# Altium schematic symbol library Interface.SchLib: 116 symbols (part 2 of 2)
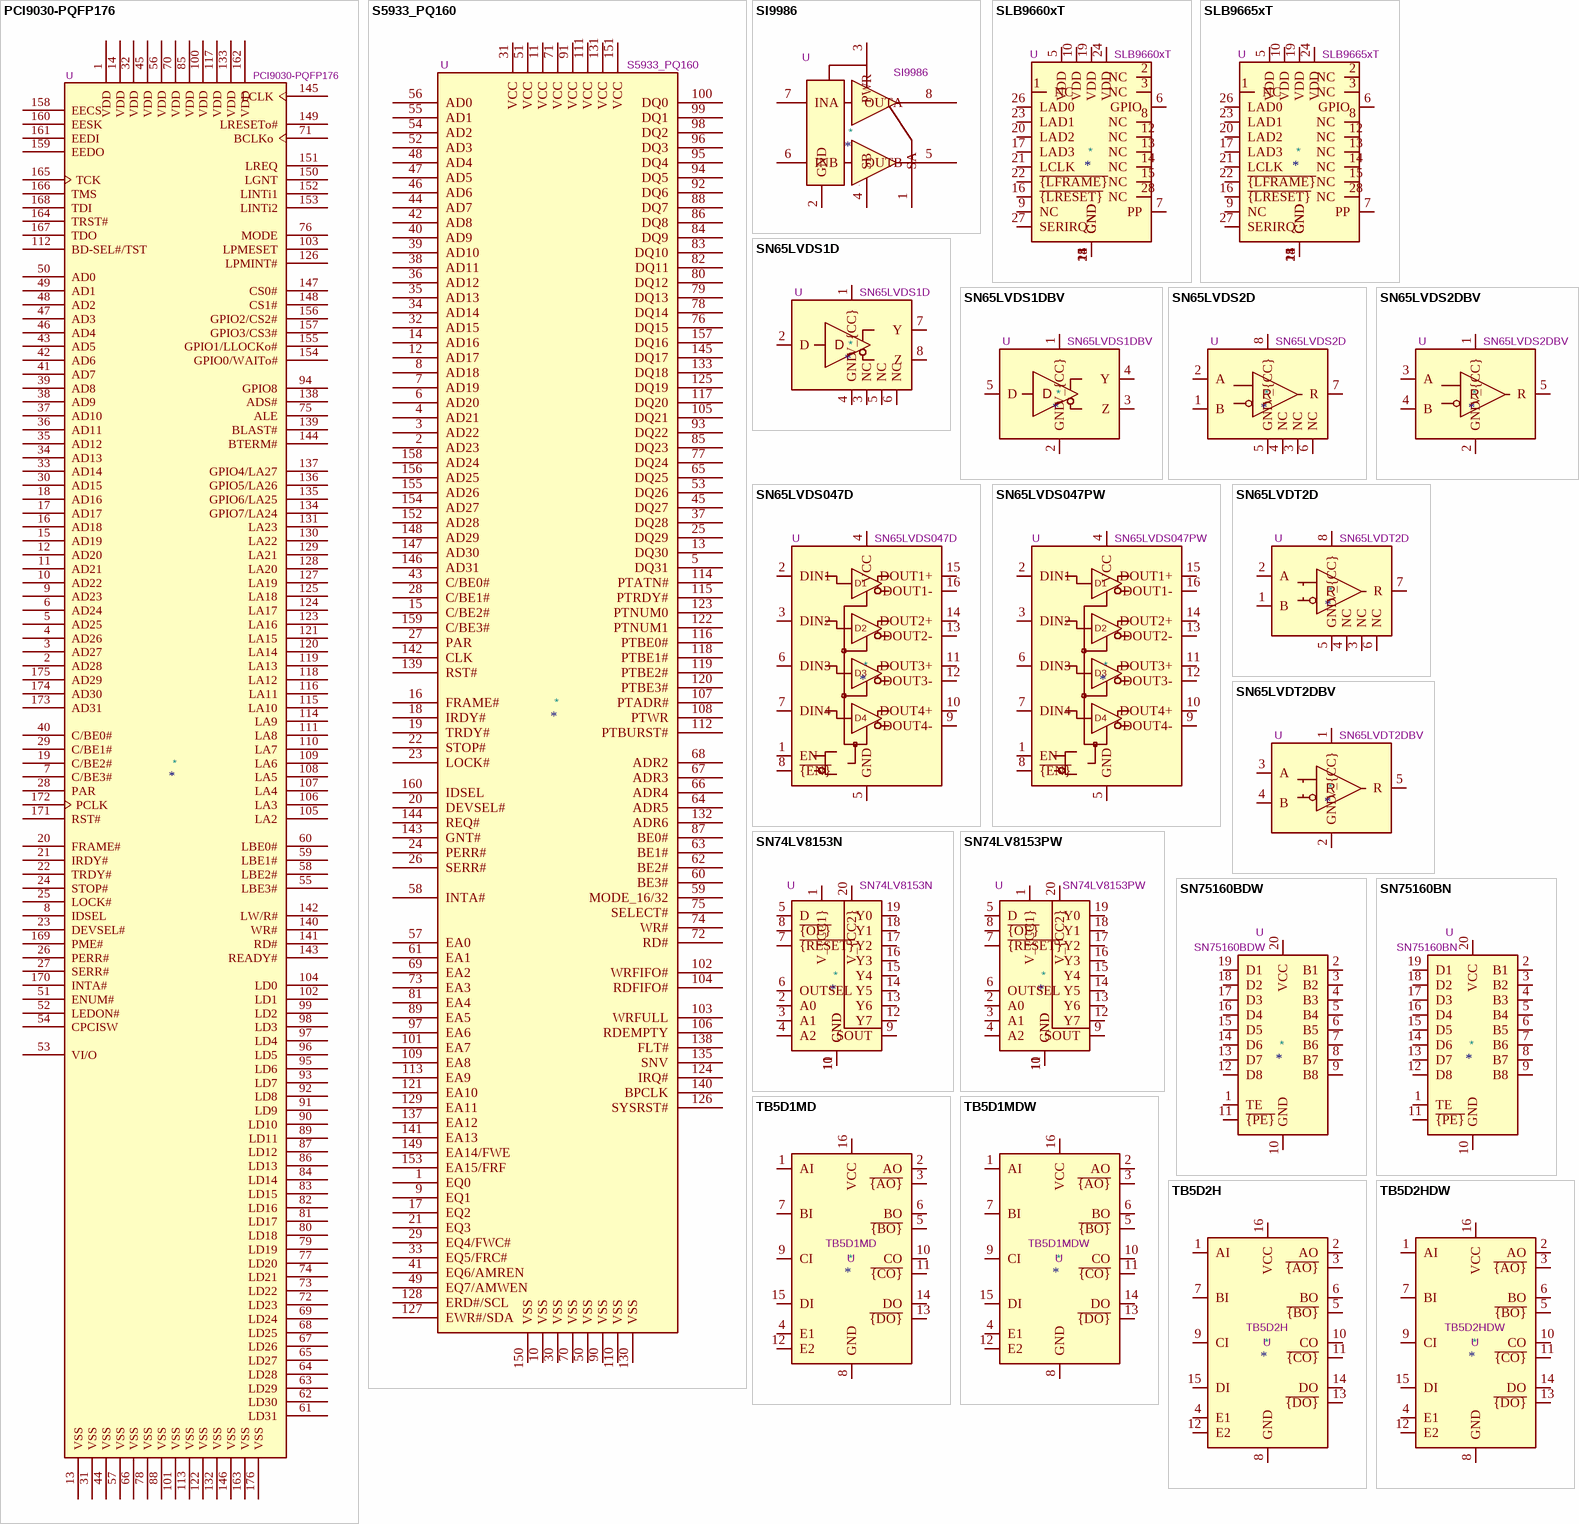
[diagram p6: symbols PCI9030-PQFP176 to TB5D2HDW]

## S5933_PQ160
designator *  value S5933_PQ160  Reference: U
PCI 2.1 Compliant Master/Slave Device, PQFP-160; ki_fp_filters: PQFP*28x28mm*P0.65mm*; Footprint: Package_QFP:PQFP-160_28x28mm_P0.65mm; Datasheet: http://datasheet.datasheetarchive.com/originals/distributors/Datasheets-35/DSA-684194.pdf; Description_: PCI 2.1 Compliant Master/Slave Device, PQFP-160; ki_keywords: PCI 2.1 Compliant Master/Slave Device
pins: 1 EQ0, 2 AD23, 3 AD22, 4 AD21, 5 DQ31, 6 AD20, 7 AD19, 8 AD18, 9 EQ1, 10 VSS, 11 VCC, 12 AD17, 13 DQ30, 14 AD16, 15 C/BE2#, 16 FRAME#, 17 EQ2, 18 IRDY#, 19 TRDY#, 20 DEVSEL#, 21 EQ3, 22 STOP#, 23 LOCK#, 24 PERR#, 25 DQ29, 26 SERR#, 27 PAR, 28 C/BE1#, 29 EQ4/FWC#, 30 VSS, 31 VCC, 32 AD15, 33 EQ5/FRC#, 34 AD14, 35 AD13, 36 AD12, 37 DQ28, 38 AD11, 39 AD10, 40 AD9, 41 EQ6/AMREN, 42 AD8, 43 C/BE0#, 44 AD7, 45 DQ27, 46 AD6, 47 AD5, 48 AD4, 49 EQ7/AMWEN, 50 VSS, 51 VCC, 52 AD3, 53 DQ26, 54 AD2, 55 AD1, 56 AD0, 57 EA0, 58 INTA#, 59 MODE_16/32, 60 BE3#, 61 EA1, 62 BE2#, 63 BE1#, 64 ADR5, 65 DQ25, 66 ADR4, 67 ADR3, 68 ADR2, 69 EA2, 70 VSS, 71 VCC, 72 RD#, 73 EA3, 74 WR#, 75 SELECT#, 76 DQ15, 77 DQ24, 78 DQ14, 79 DQ13, 80 DQ12, 81 EA4, 82 DQ11, 83 DQ10, 84 DQ9, 85 DQ23, 86 DQ8, 87 BE0#, 88 DQ7, 89 EA5, 90 VSS, 91 VCC, 92 DQ6, 93 DQ22, 94 DQ5, 95 DQ4, 96 DQ3, 97 EA6, 98 DQ2, 99 DQ1, 100 DQ0, 101 EA7, 102 WRFIFO#, 103 WRFULL, 104 RDFIFO#, 105 DQ21, 106 RDEMPTY, 107 PTADR#, 108 PTWR, 109 EA8, 110 VSS, 111 VCC, 112 PTBURST#, 113 EA9, 114 PTATN#, 115 PTRDY#, 116 PTBE0#, 117 DQ20, 118 PTBE1#, 119 PTBE2#, 120 PTBE3#, 121 EA10, 122 PTNUM1, 123 PTNUM0, 124 IRQ#, 125 DQ19, 126 SYSRST#, 127 EWR#/SDA, 128 ERD#/SCL, 129 EA11, 130 VSS, 131 VCC, 132 ADR6, 133 DQ18, 135 SNV, 137 EA12, 138 FLT#, 139 RST#, 140 BPCLK, 141 EA13, 142 CLK, 143 GNT#, 144 REQ#, 145 DQ17, 146 AD31, 147 AD30, 148 AD29, 149 EA14/FWE, 150 VSS, 151 VCC, 152 AD28, 153 EA15/FRF, 154 AD27, 155 AD26, 156 AD25, 157 DQ16, 158 AD24, 159 C/BE3#, 160 IDSEL

## SI9986
designator *  value SI9986  Reference: U
Integrated, buffered H-bridge with TTL compatible inputs, 1A, 12V, SOIC-8; ki_fp_filters: SOIC*3.9x4.9mm*P1.27mm*; Footprint: Package_SO:SOIC-8_3.9x4.9mm_P1.27mm; Datasheet: http://www.vishay.com/docs/70007/si9986.pdf; Description_: Integrated, buffered H-bridge with TTL compatible inputs, 1A, 12V, SOIC-8; ki_keywords: integrated, buffered H-bridge
pins: 1 SA, 2 GND, 3 PWR, 4 SB, 5 OUTB, 6 INB, 7 INA, 8 OUTA

## SLB9660xT
designator *  value SLB9660xT  Reference: U
Trusted Platform Module 1.2 with Low Pin Count interface, TSSOP-28; ki_keywords: TPM LPC; ki_fp_filters: TSSOP*4.4x9.7mm*P0.65mm*; Footprint: Package_SO:TSSOP-28_4.4x9.7mm_P0.65mm; Datasheet: https://www.infineon.com/dgdl/Infineon-data-sheet-SLB9660_1.2_Rev1.2-DS-v01_02-EN.pdf?fileId=5546d462689a790c016929d1cb874fe5; Description_: Trusted Platform Module 1.2 with Low Pin Count interface, TSSOP-28
pins: 1 NC, 2 NC, 3 NC, 4 GND, 5 VDD, 6 GPIO, 7 PP, 8 NC, 9 NC, 10 VDD, 11 GND, 12 NC, 13 NC, 14 NC, 15 NC, 16 ~{{LRESET}}, 17 LAD3, 18 GND, 19 VDD, 20 LAD2, 21 LCLK, 22 ~{{LFRAME}}, 23 LAD1, 24 VDD, 25 GND, 26 LAD0, 27 SERIRQ, 28 NC

## SLB9665xT
designator *  value SLB9665xT  Reference: U
Trusted Platform Module 2.0 with Low Pin Count interface, TSSOP-28; ki_keywords: TPM LPC; ki_fp_filters: TSSOP*4.4x9.7mm*P0.65mm*; Footprint: Package_SO:TSSOP-28_4.4x9.7mm_P0.65mm; Datasheet: https://www.infineon.com/dgdl/Infineon-data-sheet-SLB9665_2.0_Rev1.2-DS-v01_02-EN.pdf?fileId=5546d462689a790c016929d1d3054feb; Description_: Trusted Platform Module 2.0 with Low Pin Count interface, TSSOP-28
pins: 1 NC, 2 NC, 3 NC, 4 GND, 5 VDD, 6 GPIO, 7 PP, 8 NC, 9 NC, 10 VDD, 11 GND, 12 NC, 13 NC, 14 NC, 15 NC, 16 ~{{LRESET}}, 17 LAD3, 18 GND, 19 VDD, 20 LAD2, 21 LCLK, 22 ~{{LFRAME}}, 23 LAD1, 24 VDD, 25 GND, 26 LAD0, 27 SERIRQ, 28 NC

## SN65LVDS1D
designator *  value SN65LVDS1D  Reference: U
High-Speed Differential Line Driver, 630Mbps, SOIC-8; ki_keywords: LVDS Driver TI; ki_fp_filters: *SOIC*3.9x4.9mm*P1.27mm*; Footprint: Package_SO:SOIC-8_3.9x4.9mm_P1.27mm; Datasheet: http://www.ti.com/lit/ds/symlink/sn65lvds1.pdf; Description_: High-Speed Differential Line Driver, 630Mbps, SOIC-8
pins: 1 V_{CC}, 2 D, 3 NC, 4 GND, 5 NC, 6 NC, 7 Y, 8 Z

## SN65LVDS1DBV
designator *  value SN65LVDS1DBV  Reference: U
High-Speed Differential Line Driver, 630Mbps, SOT-23-5; ki_keywords: LVDS Driver TI; ki_fp_filters: SOT?23*; Footprint: Package_TO_SOT_SMD:SOT-23-5; Datasheet: http://www.ti.com/lit/ds/symlink/sn65lvds1.pdf; Description_: High-Speed Differential Line Driver, 630Mbps, SOT-23-5
pins: 1 V_{CC}, 2 GND, 3 Z, 4 Y, 5 D

## SN65LVDS2D
designator *  value SN65LVDS2D  Reference: U
High-Speed Differential Line Receiver, 630Mbps, SOIC-8; ki_keywords: LVDS Receiver TI; ki_fp_filters: *SOIC*3.9x4.9mm*P1.27mm*; Footprint: Package_SO:SOIC-8_3.9x4.9mm_P1.27mm; Datasheet: https://www.ti.com/lit/ds/symlink/sn65lvds2.pdf; Description_: High-Speed Differential Line Receiver, 630Mbps, SOIC-8
pins: 1 B, 2 A, 3 NC, 4 NC, 5 GND, 6 NC, 7 R, 8 V_{CC}

## SN65LVDS2DBV
designator *  value SN65LVDS2DBV  Reference: U
High-Speed Differential Line Receiver, 630Mbps, SOT-23-5; ki_keywords: LVDS Receiver TI; ki_fp_filters: SOT?23*; Footprint: Package_TO_SOT_SMD:SOT-23-5; Datasheet: https://www.ti.com/lit/ds/symlink/sn65lvds2.pdf; Description_: High-Speed Differential Line Receiver, 630Mbps, SOT-23-5
pins: 1 V_{CC}, 2 GND, 3 A, 4 B, 5 R

## SN65LVDS047D
designator *  value SN65LVDS047D  Reference: U
Quad LVDS Differential Line Driver, 400Mbps, SOIC-16; ki_keywords: Quad LVDS Driver; ki_fp_filters: SOIC*3.9x9.9mm*P1.27mm*; Footprint: Package_SO:SOIC-16_3.9x9.9mm_P1.27mm; Datasheet: http://www.ti.com/lit/ds/symlink/sn65lvds047.pdf; Description_: Quad LVDS Differential Line Driver, 400Mbps, SOIC-16
pins: 1 EN, 2 DIN1, 3 DIN2, 4 VCC, 5 GND, 6 DIN3, 7 DIN4, 8 ~{{EN}}, 9 DOUT4-, 10 DOUT4+, 11 DOUT3+, 12 DOUT3-, 13 DOUT2-, 14 DOUT2+, 15 DOUT1+, 16 DOUT1-
text: D1; D2; D3; D4

## SN65LVDS047PW
designator *  value SN65LVDS047PW  Reference: U
Quad LVDS Differential Line Driver, 400Mbps, TSSOP-16; ki_keywords: Quad LVDS Driver; ki_fp_filters: TSSOP*4.4x5mm*P0.65mm*; Footprint: Package_SO:TSSOP-16_4.4x5mm_P0.65mm; Datasheet: http://www.ti.com/lit/ds/symlink/sn65lvds047.pdf; Description_: Quad LVDS Differential Line Driver, 400Mbps, TSSOP-16
pins: 1 EN, 2 DIN1, 3 DIN2, 4 VCC, 5 GND, 6 DIN3, 7 DIN4, 8 ~{{EN}}, 9 DOUT4-, 10 DOUT4+, 11 DOUT3+, 12 DOUT3-, 13 DOUT2-, 14 DOUT2+, 15 DOUT1+, 16 DOUT1-
text: D1; D2; D3; D4

## SN65LVDT2D
designator *  value SN65LVDT2D  Reference: U
High-Speed Differential Line Receiver, 110 Ω Terminated, 630Mbps, SOIC-8; ki_keywords: LVDS Receiver TI; ki_fp_filters: *SOIC*3.9x4.9mm*P1.27mm*; Footprint: Package_SO:SOIC-8_3.9x4.9mm_P1.27mm; Datasheet: https://www.ti.com/lit/ds/symlink/sn65lvdt2.pdf; Description_: High-Speed Differential Line Receiver, 110 Ω Terminated, 630Mbps, SOIC-8
pins: 1 B, 2 A, 3 NC, 4 NC, 5 GND, 6 NC, 7 R, 8 V_{CC}

## SN65LVDT2DBV
designator *  value SN65LVDT2DBV  Reference: U
High-Speed Differential Line Receiver, 110 Ω Terminated, 630Mbps, SOT-23-5; ki_keywords: LVDS Receiver TI; ki_fp_filters: SOT?23*; Footprint: Package_TO_SOT_SMD:SOT-23-5; Datasheet: https://www.ti.com/lit/ds/symlink/sn65lvdt2.pdf; Description_: High-Speed Differential Line Receiver, 110 Ω Terminated, 630Mbps, SOT-23-5
pins: 1 V_{CC}, 2 GND, 3 A, 4 B, 5 R

## SN74LV8153N
designator *  value SN74LV8153N  Reference: U
UART, Single wire input, Output 40mA, Open Collector or Push Pull, PDIP-20; ki_keywords: serial to parallel; ki_fp_filters: DIP*W7.62mm*; Footprint: Package_DIP:DIP-20_W7.62mm; Datasheet: https://www.ti.com/lit/ds/symlink/sn74lv8153.pdf; Description_: UART, Single wire input, Output 40mA, Open Collector or Push Pull, PDIP-20
pins: 1 V_{CC1}, 2 A0, 3 A1, 4 A2, 5 D, 6 OUTSEL, 7 ~{{RESET}}, 8 ~{{OE}}, 9 SOUT, 10 GND, 11 GND, 12 Y7, 13 Y6, 14 Y5, 15 Y4, 16 Y3, 17 Y2, 18 Y1, 19 Y0, 20 V_{CC2}

## SN74LV8153PW
designator *  value SN74LV8153PW  Reference: U
UART, Single wire input, Output 40mA, Open Collector or Push Pull, TSSOP-20; ki_keywords: serial to parallel; ki_fp_filters: TSSOP*4.4x6.5mm*P0.65mm*; Footprint: Package_SO:TSSOP-20_4.4x6.5mm_P0.65mm; Datasheet: https://www.ti.com/lit/ds/symlink/sn74lv8153.pdf; Description_: UART, Single wire input, Output 40mA, Open Collector or Push Pull, TSSOP-20
pins: 1 V_{CC1}, 2 A0, 3 A1, 4 A2, 5 D, 6 OUTSEL, 7 ~{{RESET}}, 8 ~{{OE}}, 9 SOUT, 10 GND, 11 GND, 12 Y7, 13 Y6, 14 Y5, 15 Y4, 16 Y3, 17 Y2, 18 Y1, 19 Y0, 20 V_{CC2}

## SN75160BDW
designator *  value SN75160BDW  Reference: U
Octal general-purpose interface bus transceiver, SOIC-20; ki_keywords: gpib bidirectional bus transceiver; ki_fp_filters: SOIC*7.5x12.8mm*P1.27mm*; Footprint: Package_SO:SOIC-20W_7.5x12.8mm_P1.27mm; Datasheet: http://www.ti.com/lit/ds/symlink/sn75160b.pdf; Description_: Octal general-purpose interface bus transceiver, SOIC-20
pins: 1 TE, 2 B1, 3 B2, 4 B3, 5 B4, 6 B5, 7 B6, 8 B7, 9 B8, 10 GND, 11 ~{{PE}}, 12 D8, 13 D7, 14 D6, 15 D5, 16 D4, 17 D3, 18 D2, 19 D1, 20 VCC

## SN75160BN
designator *  value SN75160BN  Reference: U
Octal general-purpose interface bus transceiver, DIP-20; ki_keywords: gpib bidirectional bus transceiver; ki_fp_filters: DIP*W7.62mm*; Footprint: Package_DIP:DIP-20_W7.62mm; Datasheet: http://www.ti.com/lit/ds/symlink/sn75160b.pdf; Description_: Octal general-purpose interface bus transceiver, DIP-20
pins: 1 TE, 2 B1, 3 B2, 4 B3, 5 B4, 6 B5, 7 B6, 8 B7, 9 B8, 10 GND, 11 ~{{PE}}, 12 D8, 13 D7, 14 D6, 15 D5, 16 D4, 17 D3, 18 D2, 19 D1, 20 VCC

## TB5D1MD
designator *  value TB5D1MD  Reference: U
Quad differential PECL driver; ki_fp_filters: SOIC*3.9x9.9mm*P1.27*; Footprint: Package_SO:SOIC-16_3.9x9.9mm_P1.27mm; Datasheet: http://www.ti.com/lit/ds/symlink/tb5d2h.pdf; Description_: Quad differential PECL driver; ki_keywords: differential PECL driver
pins: 1 AI, 2 AO, 3 ~{{AO}}, 4 E1, 5 ~{{BO}}, 6 BO, 7 BI, 8 GND, 9 CI, 10 CO, 11 ~{{CO}}, 12 E2, 13 ~{{DO}}, 14 DO, 15 DI, 16 VCC

## TB5D1MDW
designator *  value TB5D1MDW  Reference: U
Quad differential PECL driver; ki_fp_filters: SOIC*7.5x10.3mm*P1.27*; Footprint: Package_SO:SOIC-16W_7.5x10.3mm_P1.27mm; Datasheet: http://www.ti.com/lit/ds/symlink/tb5d2h.pdf; Description_: Quad differential PECL driver; ki_keywords: differential PECL driver
pins: 1 AI, 2 AO, 3 ~{{AO}}, 4 E1, 5 ~{{BO}}, 6 BO, 7 BI, 8 GND, 9 CI, 10 CO, 11 ~{{CO}}, 12 E2, 13 ~{{DO}}, 14 DO, 15 DI, 16 VCC

## TB5D2H
designator *  value TB5D2H  Reference: U
Quad differential PECL driver; ki_fp_filters: SOIC*3.9x9.9mm*P1.27*; Footprint: Package_SO:SOIC-16_3.9x9.9mm_P1.27mm; Datasheet: http://www.ti.com/lit/ds/symlink/tb5d2h.pdf; Description_: Quad differential PECL driver; ki_keywords: differential PECL driver
pins: 1 AI, 2 AO, 3 ~{{AO}}, 4 E1, 5 ~{{BO}}, 6 BO, 7 BI, 8 GND, 9 CI, 10 CO, 11 ~{{CO}}, 12 E2, 13 ~{{DO}}, 14 DO, 15 DI, 16 VCC

## TB5D2HDW
designator *  value TB5D2HDW  Reference: U
Quad differential PECL driver; ki_fp_filters: SOIC*7.5x10.3mm*P1.27*; Footprint: Package_SO:SOIC-16W_7.5x10.3mm_P1.27mm; Datasheet: http://www.ti.com/lit/ds/symlink/tb5d2h.pdf; Description_: Quad differential PECL driver; ki_keywords: differential PECL driver
pins: 1 AI, 2 AO, 3 ~{{AO}}, 4 E1, 5 ~{{BO}}, 6 BO, 7 BI, 8 GND, 9 CI, 10 CO, 11 ~{{CO}}, 12 E2, 13 ~{{DO}}, 14 DO, 15 DI, 16 VCC

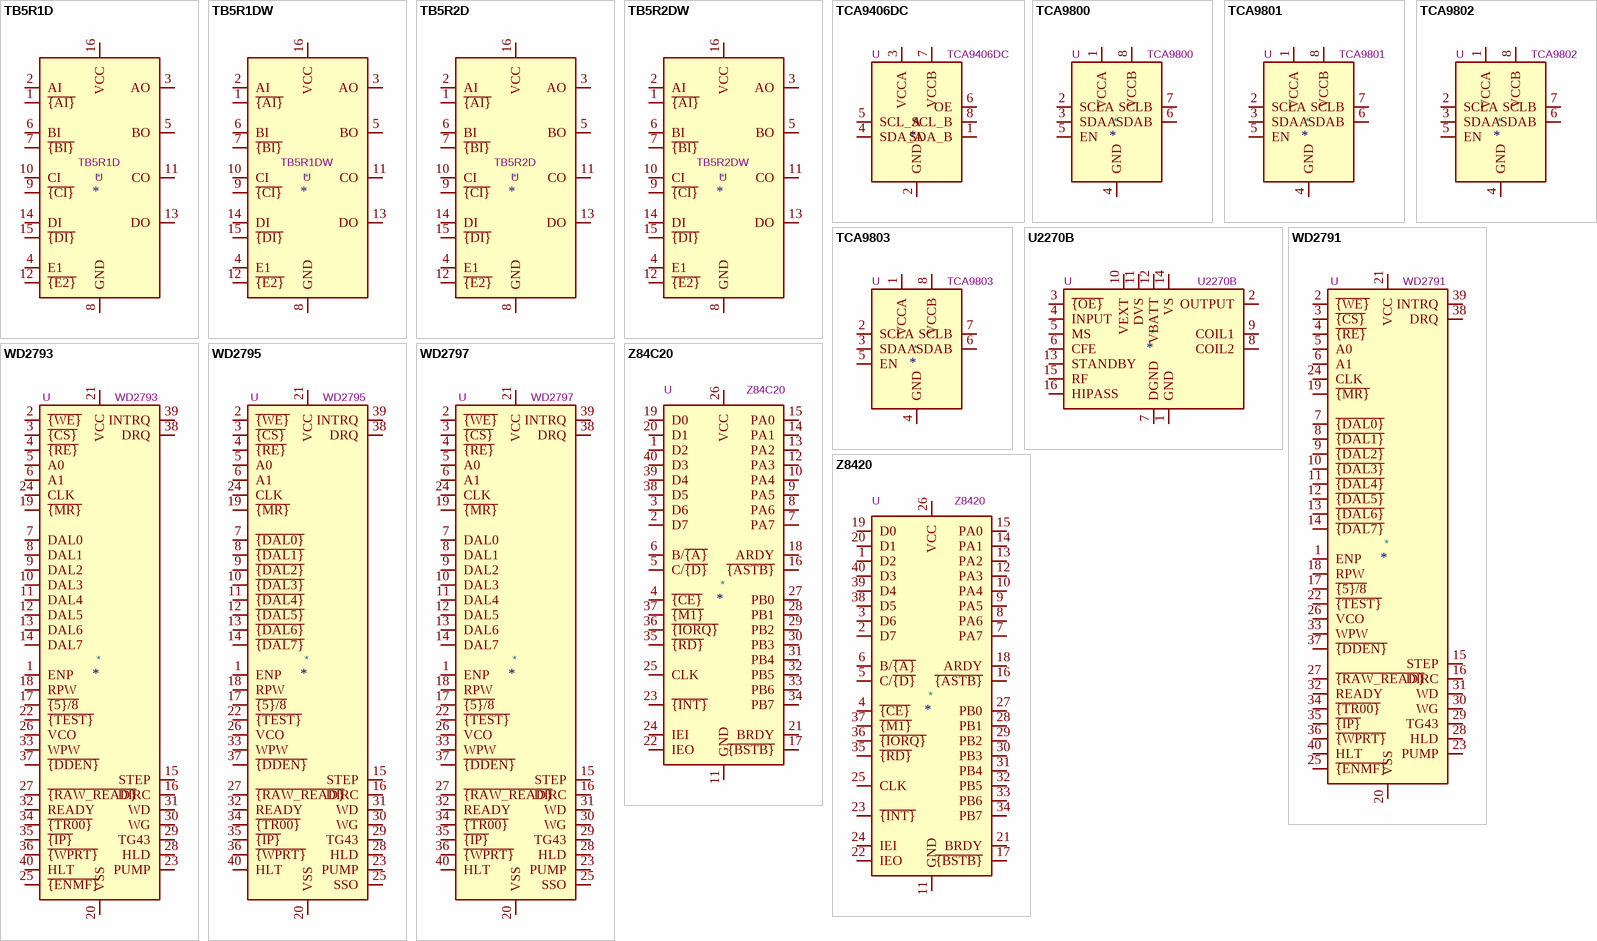
[diagram p5: symbols TB5R1D to Z8420]

## TB5R1D
designator *  value TB5R1D  Reference: U
Quad differential PECL reciver; ki_fp_filters: SOIC*3.9x9.9mm*P1.27*; Footprint: Package_SO:SOIC-16_3.9x9.9mm_P1.27mm; Datasheet: http://www.ti.com/lit/ds/symlink/tb5r1.pdf; Description_: Quad differential PECL reciver; ki_keywords: differential PECL reciver
pins: 1 ~{{AI}}, 2 AI, 3 AO, 4 E1, 5 BO, 6 BI, 7 ~{{BI}}, 8 GND, 9 ~{{CI}}, 10 CI, 11 CO, 12 ~{{E2}}, 13 DO, 14 DI, 15 ~{{DI}}, 16 VCC

## TB5R1DW
designator *  value TB5R1DW  Reference: U
Quad differential PECL reciver; ki_fp_filters: SOIC*7.5x10.3mm*P1.27*; Footprint: Package_SO:SOIC-16W_7.5x10.3mm_P1.27mm; Datasheet: http://www.ti.com/lit/ds/symlink/tb5r1.pdf; Description_: Quad differential PECL reciver; ki_keywords: differential PECL reciver
pins: 1 ~{{AI}}, 2 AI, 3 AO, 4 E1, 5 BO, 6 BI, 7 ~{{BI}}, 8 GND, 9 ~{{CI}}, 10 CI, 11 CO, 12 ~{{E2}}, 13 DO, 14 DI, 15 ~{{DI}}, 16 VCC

## TB5R2D
designator *  value TB5R2D  Reference: U
Quad differential PECL reciver; ki_fp_filters: SOIC*3.9x9.9mm*P1.27*; Footprint: Package_SO:SOIC-16_3.9x9.9mm_P1.27mm; Datasheet: http://www.ti.com/lit/ds/symlink/tb5r1.pdf; Description_: Quad differential PECL reciver; ki_keywords: differential PECL reciver
pins: 1 ~{{AI}}, 2 AI, 3 AO, 4 E1, 5 BO, 6 BI, 7 ~{{BI}}, 8 GND, 9 ~{{CI}}, 10 CI, 11 CO, 12 ~{{E2}}, 13 DO, 14 DI, 15 ~{{DI}}, 16 VCC

## TB5R2DW
designator *  value TB5R2DW  Reference: U
Quad differential PECL reciver; ki_fp_filters: SOIC*7.5x10.3mm*P1.27*; Footprint: Package_SO:SOIC-16W_7.5x10.3mm_P1.27mm; Datasheet: http://www.ti.com/lit/ds/symlink/tb5r1.pdf; Description_: Quad differential PECL reciver; ki_keywords: differential PECL reciver
pins: 1 ~{{AI}}, 2 AI, 3 AO, 4 E1, 5 BO, 6 BI, 7 ~{{BI}}, 8 GND, 9 ~{{CI}}, 10 CI, 11 CO, 12 ~{{E2}}, 13 DO, 14 DI, 15 ~{{DI}}, 16 VCC

## TCA9406DC
designator *  value TCA9406DC  Reference: U
2-Bit Bidirectional 1-MHz, I2C Bus and SMBus Voltage-Level Translator With 8-kV HBM ESD; ki_keywords: Bidirectional 1-MHz I2C SMBus Voltage-Level Translator 8kV HBM ESD; ki_fp_filters: SSOP*2.95x2.8mm*P0.65mm* VSSOP*2.3x2mm*P0.5mm*; Datasheet: www.ti.com/lit/ds/symlink/tca9406.pdf; Description_: 2-Bit Bidirectional 1-MHz, I2C Bus and SMBus Voltage-Level Translator With 8-kV HBM ESD
pins: 1 SDA_B, 2 GND, 3 VCCA, 4 SDA_A, 5 SCL_A, 6 OE, 7 VCCB, 8 SCL_B

## TCA9800
designator *  value TCA9800  Reference: U
Level-Translating I2C Bus Buffer/Repeater 0.54mA Current Source, VSSOP-8; ki_keywords: I2C buffer repeater; ki_fp_filters: VSSOP*3x3mm*P0.65mm*; Footprint: Package_SO:VSSOP-8_3x3mm_P0.65mm; Datasheet: http://www.ti.com/lit/ds/symlink/tca9800.pdf; Description_: Level-Translating I2C Bus Buffer/Repeater 0.54mA Current Source, VSSOP-8
pins: 1 VCCA, 2 SCLA, 3 SDAA, 4 GND, 5 EN, 6 SDAB, 7 SCLB, 8 VCCB

## TCA9801
designator *  value TCA9801  Reference: U
Level-Translating I2C Bus Buffer/Repeater 1.1mA Current Source, VSSOP-8; ki_keywords: I2C buffer repeater; ki_fp_filters: VSSOP*3x3mm*P0.65mm*; Footprint: Package_SO:VSSOP-8_3x3mm_P0.65mm; Datasheet: http://www.ti.com/lit/ds/symlink/tca9801.pdf; Description_: Level-Translating I2C Bus Buffer/Repeater 1.1mA Current Source, VSSOP-8
pins: 1 VCCA, 2 SCLA, 3 SDAA, 4 GND, 5 EN, 6 SDAB, 7 SCLB, 8 VCCB

## TCA9802
designator *  value TCA9802  Reference: U
Level-Translating I2C Bus Buffer/Repeater 2.2mA Current Source, VSSOP-8; ki_keywords: I2C buffer repeater; ki_fp_filters: VSSOP*3x3mm*P0.65mm*; Footprint: Package_SO:VSSOP-8_3x3mm_P0.65mm; Datasheet: http://www.ti.com/lit/ds/symlink/tca9802.pdf; Description_: Level-Translating I2C Bus Buffer/Repeater 2.2mA Current Source, VSSOP-8
pins: 1 VCCA, 2 SCLA, 3 SDAA, 4 GND, 5 EN, 6 SDAB, 7 SCLB, 8 VCCB

## TCA9803
designator *  value TCA9803  Reference: U
Level-Translating I2C Bus Buffer/Repeater 3.3mA Current Source, VSSOP-8; ki_keywords: I2C buffer repeater; ki_fp_filters: VSSOP*3x3mm*P0.65mm*; Footprint: Package_SO:VSSOP-8_3x3mm_P0.65mm; Datasheet: http://www.ti.com/lit/ds/symlink/tca9803.pdf; Description_: Level-Translating I2C Bus Buffer/Repeater 3.3mA Current Source, VSSOP-8
pins: 1 VCCA, 2 SCLA, 3 SDAA, 4 GND, 5 EN, 6 SDAB, 7 SCLB, 8 VCCB

## U2270B
designator *  value U2270B  Reference: U
IDIC read/write base stations in contactless identification and immobilizer systems, SO-16; ki_fp_filters: SOIC*3.9x9.9mm*P1.27mm*; Footprint: Package_SO:SOIC-16_3.9x9.9mm_P1.27mm; Datasheet: http://www.farnell.com/datasheets/94393.pdf; Description_: IDIC read/write base stations in contactless identification and immobilizer systems, SO-16; ki_keywords: IDIC read/write base stations in contactless identification and immobilizer systems
pins: 1 GND, 2 OUTPUT, 3 ~{{OE}}, 4 INPUT, 5 MS, 6 CFE, 7 DGND, 8 COIL2, 9 COIL1, 10 VEXT, 11 DVS, 12 VBATT, 13 STANDBY, 14 VS, 15 RF, 16 HIPASS

## WD2791
designator *  value WD2791  Reference: U
Floppy disk controller, DIP-40; ki_fp_filters: DIP*W15.24mm*; Footprint: Package_DIP:DIP-40_W15.24mm; Datasheet: http://pdf.datasheetcatalog.com/datasheets2/12/1229802_1.pdf; Description_: Floppy disk controller, DIP-40; ki_keywords: Floppy disk controller
pins: 1 ENP, 2 ~{{WE}}, 3 ~{{CS}}, 4 ~{{RE}}, 5 A0, 6 A1, 7 ~{{DAL0}}, 8 ~{{DAL1}}, 9 ~{{DAL2}}, 10 ~{{DAL3}}, 11 ~{{DAL4}}, 12 ~{{DAL5}}, 13 ~{{DAL6}}, 14 ~{{DAL7}}, 15 STEP, 16 DIRC, 17 ~{{5}/8}, 18 RPW, 19 ~{{MR}}, 20 VSS, 21 VCC, 22 ~{{TEST}}, 23 PUMP, 24 CLK, 25 ~{{ENMF}}, 26 VCO, 27 ~{{RAW_READ}}, 28 HLD, 29 TG43, 30 WG, 31 WD, 32 READY, 33 WPW, 34 ~{{TR00}}, 35 ~{{IP}}, 36 ~{{WPRT}}, 37 ~{{DDEN}}, 38 DRQ, 39 INTRQ, 40 HLT

## WD2793
designator *  value WD2793  Reference: U
Floppy disk controller, DIP-40; ki_fp_filters: DIP*W15.24mm*; Footprint: Package_DIP:DIP-40_W15.24mm; Datasheet: http://pdf.datasheetcatalog.com/datasheets2/12/1229802_1.pdf; Description_: Floppy disk controller, DIP-40; ki_keywords: Floppy disk controller
pins: 1 ENP, 2 ~{{WE}}, 3 ~{{CS}}, 4 ~{{RE}}, 5 A0, 6 A1, 7 DAL0, 8 DAL1, 9 DAL2, 10 DAL3, 11 DAL4, 12 DAL5, 13 DAL6, 14 DAL7, 15 STEP, 16 DIRC, 17 ~{{5}/8}, 18 RPW, 19 ~{{MR}}, 20 VSS, 21 VCC, 22 ~{{TEST}}, 23 PUMP, 24 CLK, 25 ~{{ENMF}}, 26 VCO, 27 ~{{RAW_READ}}, 28 HLD, 29 TG43, 30 WG, 31 WD, 32 READY, 33 WPW, 34 ~{{TR00}}, 35 ~{{IP}}, 36 ~{{WPRT}}, 37 ~{{DDEN}}, 38 DRQ, 39 INTRQ, 40 HLT

## WD2795
designator *  value WD2795  Reference: U
Floppy disk controller, DIP-40; ki_fp_filters: DIP*W15.24mm*; Footprint: Package_DIP:DIP-40_W15.24mm; Datasheet: http://pdf.datasheetcatalog.com/datasheets2/12/1229802_1.pdf; Description_: Floppy disk controller, DIP-40; ki_keywords: Floppy disk controller
pins: 1 ENP, 2 ~{{WE}}, 3 ~{{CS}}, 4 ~{{RE}}, 5 A0, 6 A1, 7 ~{{DAL0}}, 8 ~{{DAL1}}, 9 ~{{DAL2}}, 10 ~{{DAL3}}, 11 ~{{DAL4}}, 12 ~{{DAL5}}, 13 ~{{DAL6}}, 14 ~{{DAL7}}, 15 STEP, 16 DIRC, 17 ~{{5}/8}, 18 RPW, 19 ~{{MR}}, 20 VSS, 21 VCC, 22 ~{{TEST}}, 23 PUMP, 24 CLK, 25 SSO, 26 VCO, 27 ~{{RAW_READ}}, 28 HLD, 29 TG43, 30 WG, 31 WD, 32 READY, 33 WPW, 34 ~{{TR00}}, 35 ~{{IP}}, 36 ~{{WPRT}}, 37 ~{{DDEN}}, 38 DRQ, 39 INTRQ, 40 HLT

## WD2797
designator *  value WD2797  Reference: U
Floppy disk controller, DIP-40; ki_fp_filters: DIP*W15.24mm*; Footprint: Package_DIP:DIP-40_W15.24mm; Datasheet: http://pdf.datasheetcatalog.com/datasheets2/12/1229802_1.pdf; Description_: Floppy disk controller, DIP-40; ki_keywords: Floppy disk controller
pins: 1 ENP, 2 ~{{WE}}, 3 ~{{CS}}, 4 ~{{RE}}, 5 A0, 6 A1, 7 DAL0, 8 DAL1, 9 DAL2, 10 DAL3, 11 DAL4, 12 DAL5, 13 DAL6, 14 DAL7, 15 STEP, 16 DIRC, 17 ~{{5}/8}, 18 RPW, 19 ~{{MR}}, 20 VSS, 21 VCC, 22 ~{{TEST}}, 23 PUMP, 24 CLK, 25 SSO, 26 VCO, 27 ~{{RAW_READ}}, 28 HLD, 29 TG43, 30 WG, 31 WD, 32 READY, 33 WPW, 34 ~{{TR00}}, 35 ~{{IP}}, 36 ~{{WPRT}}, 37 ~{{DDEN}}, 38 DRQ, 39 INTRQ, 40 HLT

## Z84C20
designator *  value Z84C20  Reference: U
Parallel I/O, CMOS, DIP-40; ki_keywords: Z80 PIO parallel; ki_fp_filters: DIP*W15.24mm*; Footprint: Package_DIP:DIP-40_W15.24mm; Datasheet: https://www.zilog.com/appnotes_download.php?FromPage=DirectLink&dn=PS0180&ft=Product%20Specification%20(Data%20Sheet)%20%20&f=YUhSMGNEb3ZMM2QzZHk1NmFXeHZaeTVqYjIwdlpHOWpjeTk2T0RBdmNITXdNVGd3TG5Ca1pnPT0=; Description_: Parallel I/O, CMOS, DIP-40
pins: 1 D2, 2 D7, 3 D6, 4 ~{{CE}}, 5 C/~{{D}}, 6 B/~{{A}}, 7 PA7, 8 PA6, 9 PA5, 10 PA4, 11 GND, 12 PA3, 13 PA2, 14 PA1, 15 PA0, 16 ~{{ASTB}}, 17 ~{{BSTB}}, 18 ARDY, 19 D0, 20 D1, 21 BRDY, 22 IEO, 23 ~{{INT}}, 24 IEI, 25 CLK, 26 VCC, 27 PB0, 28 PB1, 29 PB2, 30 PB3, 31 PB4, 32 PB5, 33 PB6, 34 PB7, 35 ~{{RD}}, 36 ~{{IORQ}}, 37 ~{{M1}}, 38 D5, 39 D4, 40 D3

## Z8420
designator *  value Z8420  Reference: U
Parallel I/O, DIP-40; ki_keywords: Z80 PIO parallel; ki_fp_filters: DIP*W15.24mm*; Footprint: Package_DIP:DIP-40_W15.24mm; Datasheet: https://www.zilog.com/appnotes_download.php?FromPage=DirectLink&dn=PS0180&ft=Product%20Specification%20(Data%20Sheet)%20%20&f=YUhSMGNEb3ZMM2QzZHk1NmFXeHZaeTVqYjIwdlpHOWpjeTk2T0RBdmNITXdNVGd3TG5Ca1pnPT0=; Description_: Parallel I/O, DIP-40
pins: 1 D2, 2 D7, 3 D6, 4 ~{{CE}}, 5 C/~{{D}}, 6 B/~{{A}}, 7 PA7, 8 PA6, 9 PA5, 10 PA4, 11 GND, 12 PA3, 13 PA2, 14 PA1, 15 PA0, 16 ~{{ASTB}}, 17 ~{{BSTB}}, 18 ARDY, 19 D0, 20 D1, 21 BRDY, 22 IEO, 23 ~{{INT}}, 24 IEI, 25 CLK, 26 VCC, 27 PB0, 28 PB1, 29 PB2, 30 PB3, 31 PB4, 32 PB5, 33 PB6, 34 PB7, 35 ~{{RD}}, 36 ~{{IORQ}}, 37 ~{{M1}}, 38 D5, 39 D4, 40 D3